# Altium schematic symbol library TI LM5008.SchLib: 1 symbol
Pins are listed as number, name and electrical type; pins without a type are passive.

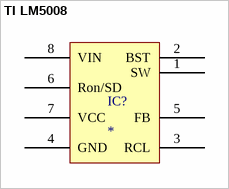
[diagram p0: symbol TI LM5008]

## TI LM5008
designator IC?
pins: 1 SW, 2 BST, 3 RCL, 4 GND, 5 FB, 6 Ron/SD, 7 VCC, 8 VIN